# Altium footprint library OSC.PcbLib: 2 footprints
Each footprint in its own frame and in the unit in brackets; x right, y up, seen from the top. Pads: shape width x height; smd on the part's side, far side on the other; paste and mask are expansions set on the pad; w line width, h text height; cw(c..) or ccw(c..) is an arc to the next point about the centre after c.
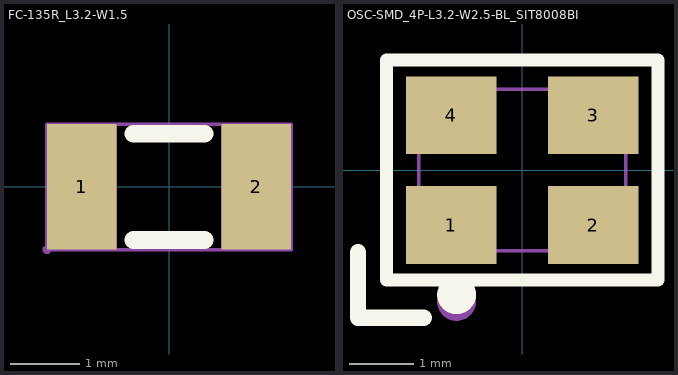
[diagram p0: the footprints below, top view; thin cyan lines are the x and y axes]

## FC-135R_L3.2-W1.5 [mm]
pads (2):
  rect 1x1.8 smd: 1(-1.25,0) 2(1.25,0)
Top Overlay:
  lines w0.254: -0.508,-0.762 0.508,-0.762 ; -0.508,0.762 0.508,0.762
Mechanical 15:
  region: 0.75,-0.9 0.75,0.9 1.75,0.9 1.75,-0.9
  region: -1.75,-0.9 -1.75,0.9 -0.75,0.9 -0.75,-0.9
  region: -1.69,-0.9 -1.69,-0.925 -1.725,-0.96 -1.775,-0.96 -1.81,-0.925 -1.81,-0.9 -1.81,-0.875 -1.775,-0.84 -1.725,-0.84 -1.69,-0.875 -1.69,-0.9
  lines w0.051: -1.75,-0.9 -1.75,0.9 1.75,0.9 1.75,-0.9 -1.75,-0.9
3D body "Crystal_3215.stp": height 0.8, standoff -0.03, extent -1.6,-0.75 1.6,0.75

## OSC-SMD_4P-L3.2-W2.5-BL_SIT8008BI [mm]
pads (4):
  rect 1.4x1.2 smd: 1(-1.1,-0.85) 2(1.1,-0.85) 3(1.1,0.85) 4(-1.1,0.85)
Top Overlay:
  lines w0.203: -2.1,-1.7 2.101,-1.7 2.101,1.7 -2.1,1.7 -2.1,-1.7
  lines w0.254: -2.54,-1.27 -2.54,-2.286 -1.524,-2.286
  lines w0.3: -1.016,-1.778 ccw(c-1.015,-1.928) -1.015,-2.078 ccw(c-1.015,-1.928) -1.013,-1.778
Mechanical 6:
  circle w0.3: c-1.016,-2.032 r0.15
Mechanical 15:
  region: -1.54,-1.25 -1.54,-1.275 -1.575,-1.31 -1.625,-1.31 -1.66,-1.275 -1.66,-1.25 -1.66,-1.225 -1.625,-1.19 -1.575,-1.19 -1.54,-1.225 -1.54,-1.25
  region: 0.6,1.15 1.5,1.15 1.5,0.55 0.6,0.55
  region: -1.5,1.15 -0.6,1.15 -0.6,0.55 -1.5,0.55
  region: 0.6,-0.55 1.5,-0.55 1.5,-1.15 0.6,-1.15
  region: -1.5,-0.55 -0.6,-0.55 -0.6,-1.15 -1.5,-1.15
  lines w0.051: -1.6,-1.25 1.6,-1.25 1.6,1.25 -1.6,1.25 -1.6,-1.25
3D body "ATX-11.STEP": height 1.2, standoff 0, extent -1.6,-1.25 1.6,1.25